# EAGLE library part 1X12 (library J-HDR2.54mm)
1X12 PBC12S [SULLINS,PBC12SAAN]HEADER MALE BRKWAY 12POS .1IN AA
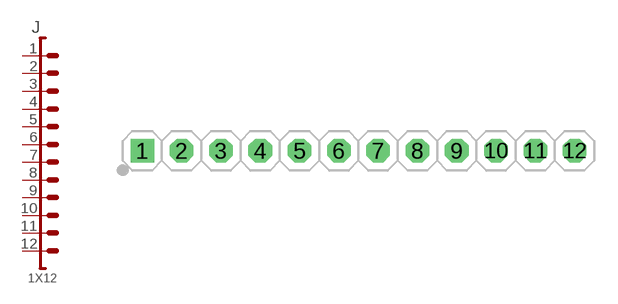
[diagram p4: symbol with the pads of 1X12; footprint 1X12]

Designator prefix J

## 1X12  [1X12]
1  1  pas
2  2  pas
3  3  pas
4  4  pas
5  5  pas
6  6  pas
7  7  pas
8  8  pas
9  9  pas
10  10  pas
11  11  pas
12  12  pas

## Footprint 1X12 (pad centres in mm)
12 PIN .1" CENTER 0.040 DRILL auto PAD http://www.sullinscorp.com/catalogs/78_Page80-81_HEADER_.100_2.54mm_FEMALE.pdf
drill 1.016 square: 1 0,0
drill 1.016 octagon: 2 2.54,0; 3 5.08,0; 4 7.62,0; 5 10.16,0; 6 12.7,0; 7 15.24,0; 8 17.78,0; 9 20.32,0; 10 22.86,0; 11 25.4,0; 12 27.94,0